# Altium footprint library 0512.PcbLib: 45 footprints (part 1 of 3)
Each footprint in its own frame and in the unit in brackets; x right, y up, seen from the top. Pads: shape width x height; smd on the part's side, far side on the other; paste and mask are expansions set on the pad; w line width, h text height; cw(c..) or ccw(c..) is an arc to the next point about the centre after c.
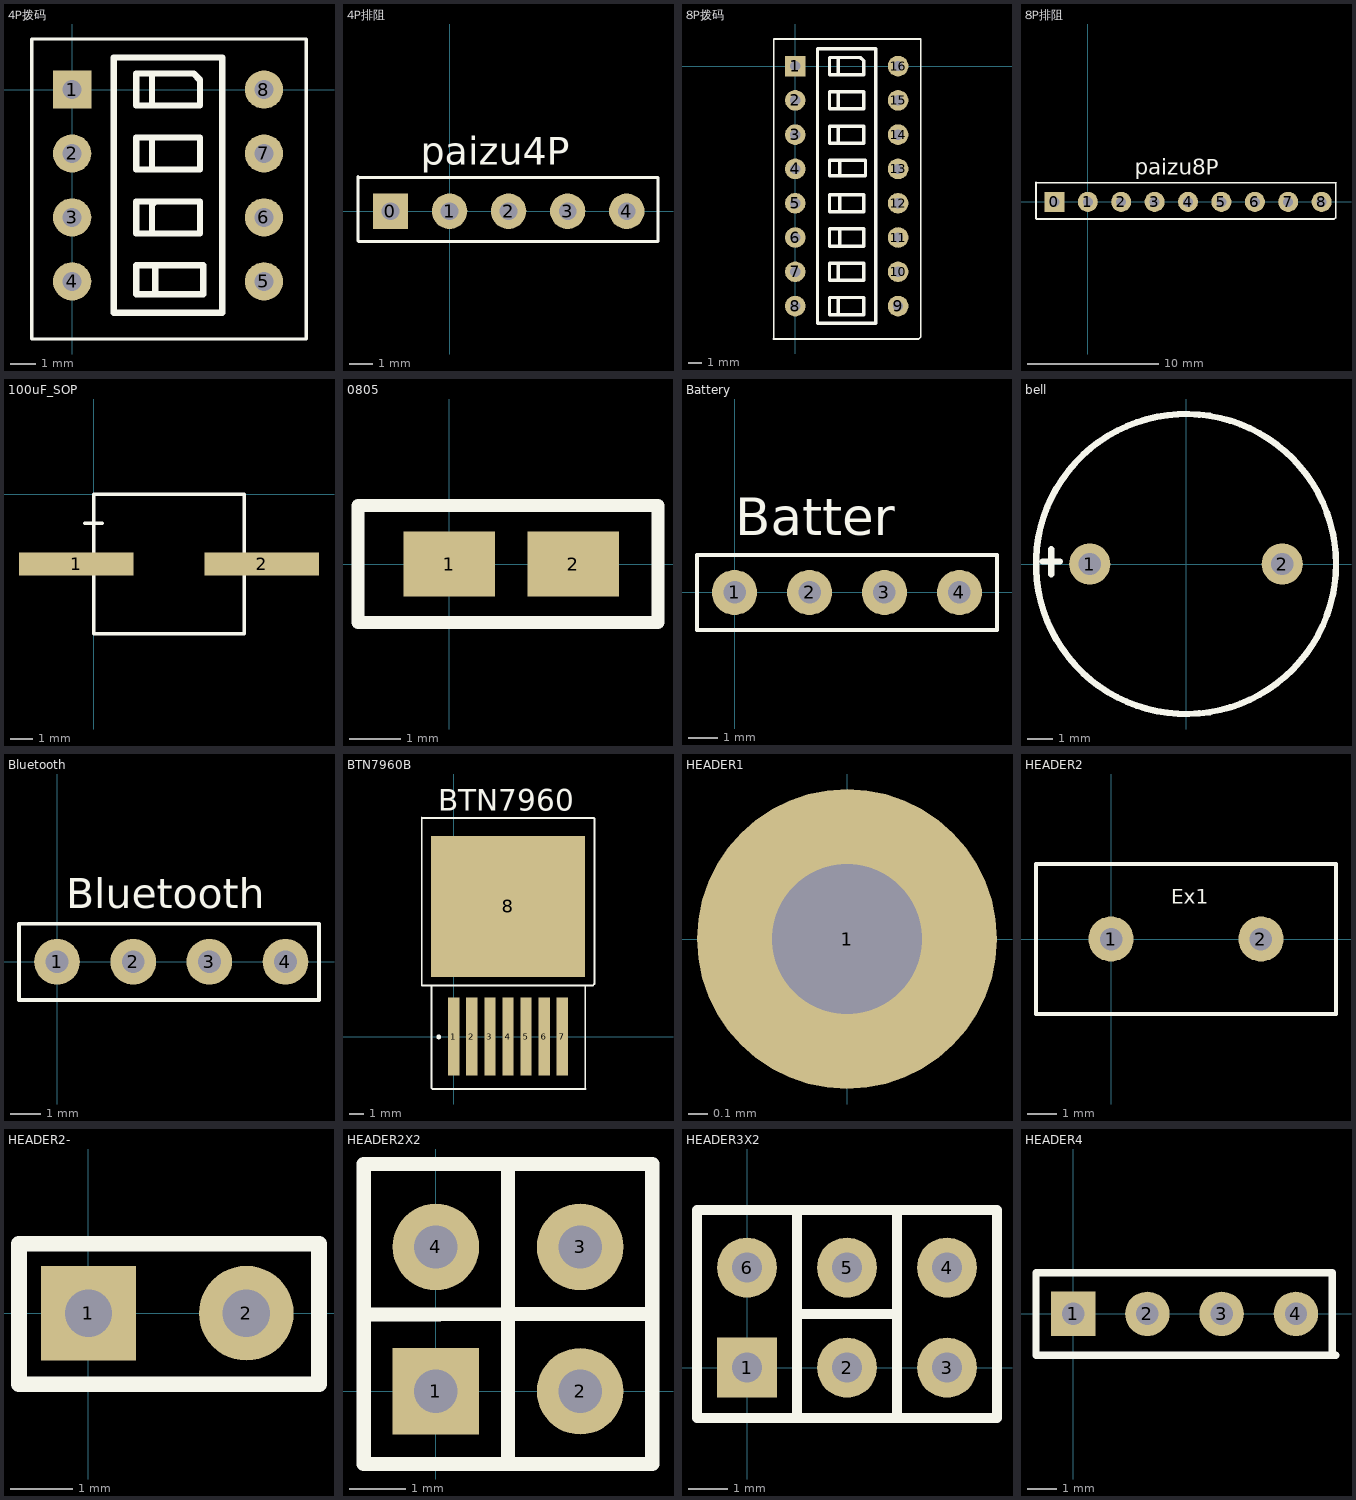
[diagram p0: the footprints below, top view; thin cyan lines are the x and y axes]

## 4P拨码 [mil]
height 787.4
pads (8):
  rect 60x60 hole 30: 1(0,0)
  round 60 hole 30: 2(0,-100) 3(0,-200) 4(0,-300) 5(300,-300) 6(300,-200) 7(300,-100) 8(300,0)
Top Overlay:
  lines w5: -63,-390 -63,79 366,79 366,-390 -63,-390
  lines w10: 75,50 200,50 ; 125,-225 125,-180 130,-175 100,-175 ; 125,-125 125,-75 100,-75 ; 125,-25 125,25 ; 125,50 65,50 65,-349 235,-349 235,50 175,50 ; 130,-320 130,-275 ; 100,-175 100,-225 200,-225 200,-175 100,-175 ; 100,-75 100,-125 200,-125 200,-75 100,-75 ; 130,-275 195,-275 205,-275 205,-320 100,-320 100,-275 130,-275 ; 100,-25 100,25 190,25 200,15 200,-25 100,-25

## 4P排阻 [mil]
pads (5):
  rect 60x60 hole 30: 0(-100,0)
  round 60 hole 30: 1(0,0) 2(100,0) 3(200,0) 4(300,0)
Top Overlay:
  lines w5: -155,-50 -154,-51 353,-51 353,57 -141,57 -153,57 -155,59 -155,-50
  text "paizu4P" at -49,79 h47.24

## 8P拨码 [mil]
pads (16):
  rect 60x60 hole 30: 1(0,0)
  round 60 hole 30: 2(0,-100) 3(0,-200) 4(0,-300) 5(0,-400) 6(0,-500) 7(0,-600) 8(0,-700) 9(300,-700) 10(300,-600) 11(300,-500) 12(300,-400) 13(300,-300) 14(300,-200) 15(300,-100) 16(300,0)
Top Overlay:
  lines w5: -64,-796 360,-796 366,-790 366,79 -63,79 -63,-795 -64,-796
  lines w10: 75,50 200,50 ; 125,-725 125,-675 100,-675 ; 125,-625 125,-575 100,-575 ; 125,-225 125,-180 130,-175 100,-175 ; 125,-125 125,-75 100,-75 ; 125,-25 125,25 ; 125,50 65,50 65,-750 235,-750 235,50 175,50 ; 130,-525 130,-480 125,-475 100,-475 ; 130,-425 130,-380 125,-375 100,-375 ; 130,-320 130,-275 ; 100,-675 100,-725 200,-725 200,-675 100,-675 ; 100,-575 100,-625 200,-625 200,-575 100,-575 ; 100,-475 100,-525 200,-525 200,-475 100,-475 ; 100,-375 100,-425 200,-425 200,-375 100,-375 ; 100,-175 100,-225 200,-225 200,-175 100,-175 ; 100,-75 100,-125 200,-125 200,-75 100,-75 ; 130,-275 195,-275 205,-275 205,-320 100,-320 100,-275 130,-275 ; 100,-25 100,25 190,25 200,15 200,-25 100,-25

## 8P排阻 [mil]
pads (9):
  rect 60x60 hole 30: 0(-100,0)
  round 60 hole 30: 1(0,0) 2(100,0) 3(200,0) 4(300,0) 5(400,0) 6(500,0) 7(600,0) 8(700,0)
Top Overlay:
  lines w5: -155,-50 -154,-51 738,-51 742,-47 742,56 743,57 -141,57 -153,57 -155,59 -155,-50
  text "paizu8P" at 140,81 h47.24

## 100uF_SOP [mil] "6.3*5.4mm"
height 212.6
pads (2):
  rect 196.85x39.37 smd: 1(-30,-120) 2(290,-120)
Top Overlay:
  lines w6: -15,-50 15,-50 ; 0,-240 0,0 260,0 260,-240 0,-240

## 0805 [mil]
pads (2):
  rect 70x50 smd: 1(0,0) 2(95,0)
Top Overlay:
  lines w10: -70,-45 -70,-14.38 -70,-3.12 -70,15 -70,45 160,45 160,-45 98.75,-45 -8.75,-45 -70,-45

## Battery [mil]
pads (4):
  round 60 hole 30: 1(0,0) 2(100,0) 3(200,0) 4(300,0)
Top Overlay:
  lines w5: -50,-50 350,-50 350,50 -50,50 -50,-50
  text "Batter" at 1,76 h50

## bell [mil]
height 377.95
pads (2):
  round 65 hole 35: 1(-151.57,0) 2(151.57,0)
Top Overlay:
  circle w10: c0,0 r236.22
  lines w10: -226,4 -199,4 ; -212,-16 -212,23

## Bluetooth [mil]
pads (4):
  round 60 hole 30: 1(0,0) 2(100,0) 3(200,0) 4(300,0)
Top Overlay:
  lines w5: -50,-50 -50,50 344,50 344,-50 -50,-50
  text "Bluetooth" at 12.2,70.47 h39.37

## BTN7960B [mm]
height 1.8
pads (8):
  rect 0.8x5.5 smd: 1(0,0) 2(1.27,0) 3(2.54,0) 4(3.81,0) 5(5.08,0) 6(6.35,0) 7(7.62,0)
  rect 10.8x9.9 smd: 8(3.81,9.15)
Top Overlay:
  circle w0.178: c-1.067,-0.025 r0.076
  lines w0.127: -1.57,3.59 -1.57,-3.62 -1.5,-3.69 9.27,-3.69 9.24,-3.66 9.24,3.59 ; -2.26,3.59 -2.26,15.41 -2.22,15.37 9.85,15.37 9.89,15.33 9.89,3.7 9.78,3.59 -2.26,3.59
  text "BTN7960" at -1.09,15.89 h1.52

## HEADER1 [mil]
pads (1):
  round 60 hole 30: 1(0,0)

## HEADER2 [mil]
pads (2):
  round 60 hole 30: 1(0,0) 2(200,0)
Top Overlay:
  lines w5: -100,-100 300,-100 300,-43.31 300,43.7 300,100 -100,100 -100,43.7 -100,-43.31 -100,-100
  text "Ex1" at 80,47 h19.68

## HEADER2- [mil]
pads (2):
  rect 60x60 hole 30: 1(0,0)
  round 60 hole 30: 2(100,0)
Top Overlay:
  lines w10: -44,-45 -44,44 146,44 146,-45 -44,-45

## HEADER2X2 [mil]
pads (4):
  rect 60x60 hole 30: 1(0,0)
  round 60 hole 30: 2(100,0) 3(100,100) 4(0,100)
Top Overlay:
  lines w10: -50,25 -50,157.48 150,157.48 150,-50.39 -50,-50.39 -50,75 ; -47,53 54,53.54 ; 50,-50.39 50,157.48 ; 50,53.54 146.46,53.54

## HEADER3X2 [mil]
pads (6):
  rect 60x60 hole 30: 1(0,0)
  round 60 hole 30: 2(100,0) 3(200,0) 4(200,100) 5(100,100) 6(0,100)
Top Overlay:
  lines w10: -50,25 -50,157.48 250,157.48 250,-50.39 -50,-50.39 -50,75 ; 50,-50.39 50,157.48 ; 50,53.54 146.46,53.54 ; 150,-50.39 150,157.48

## HEADER4 [mil]
pads (4):
  rect 60x60 hole 30: 1(0,0)
  round 60 hole 30: 2(100,0) 3(200,0) 4(300,0)
Top Overlay:
  lines w10: 350,-55.51 349,-54.51 349,55.12 -50,55.12 -50,-55.51 354,-55.51